# Altium integrated library Maxim Power and Battery Management.IntLib: 645 symbols (part 13 of 15)
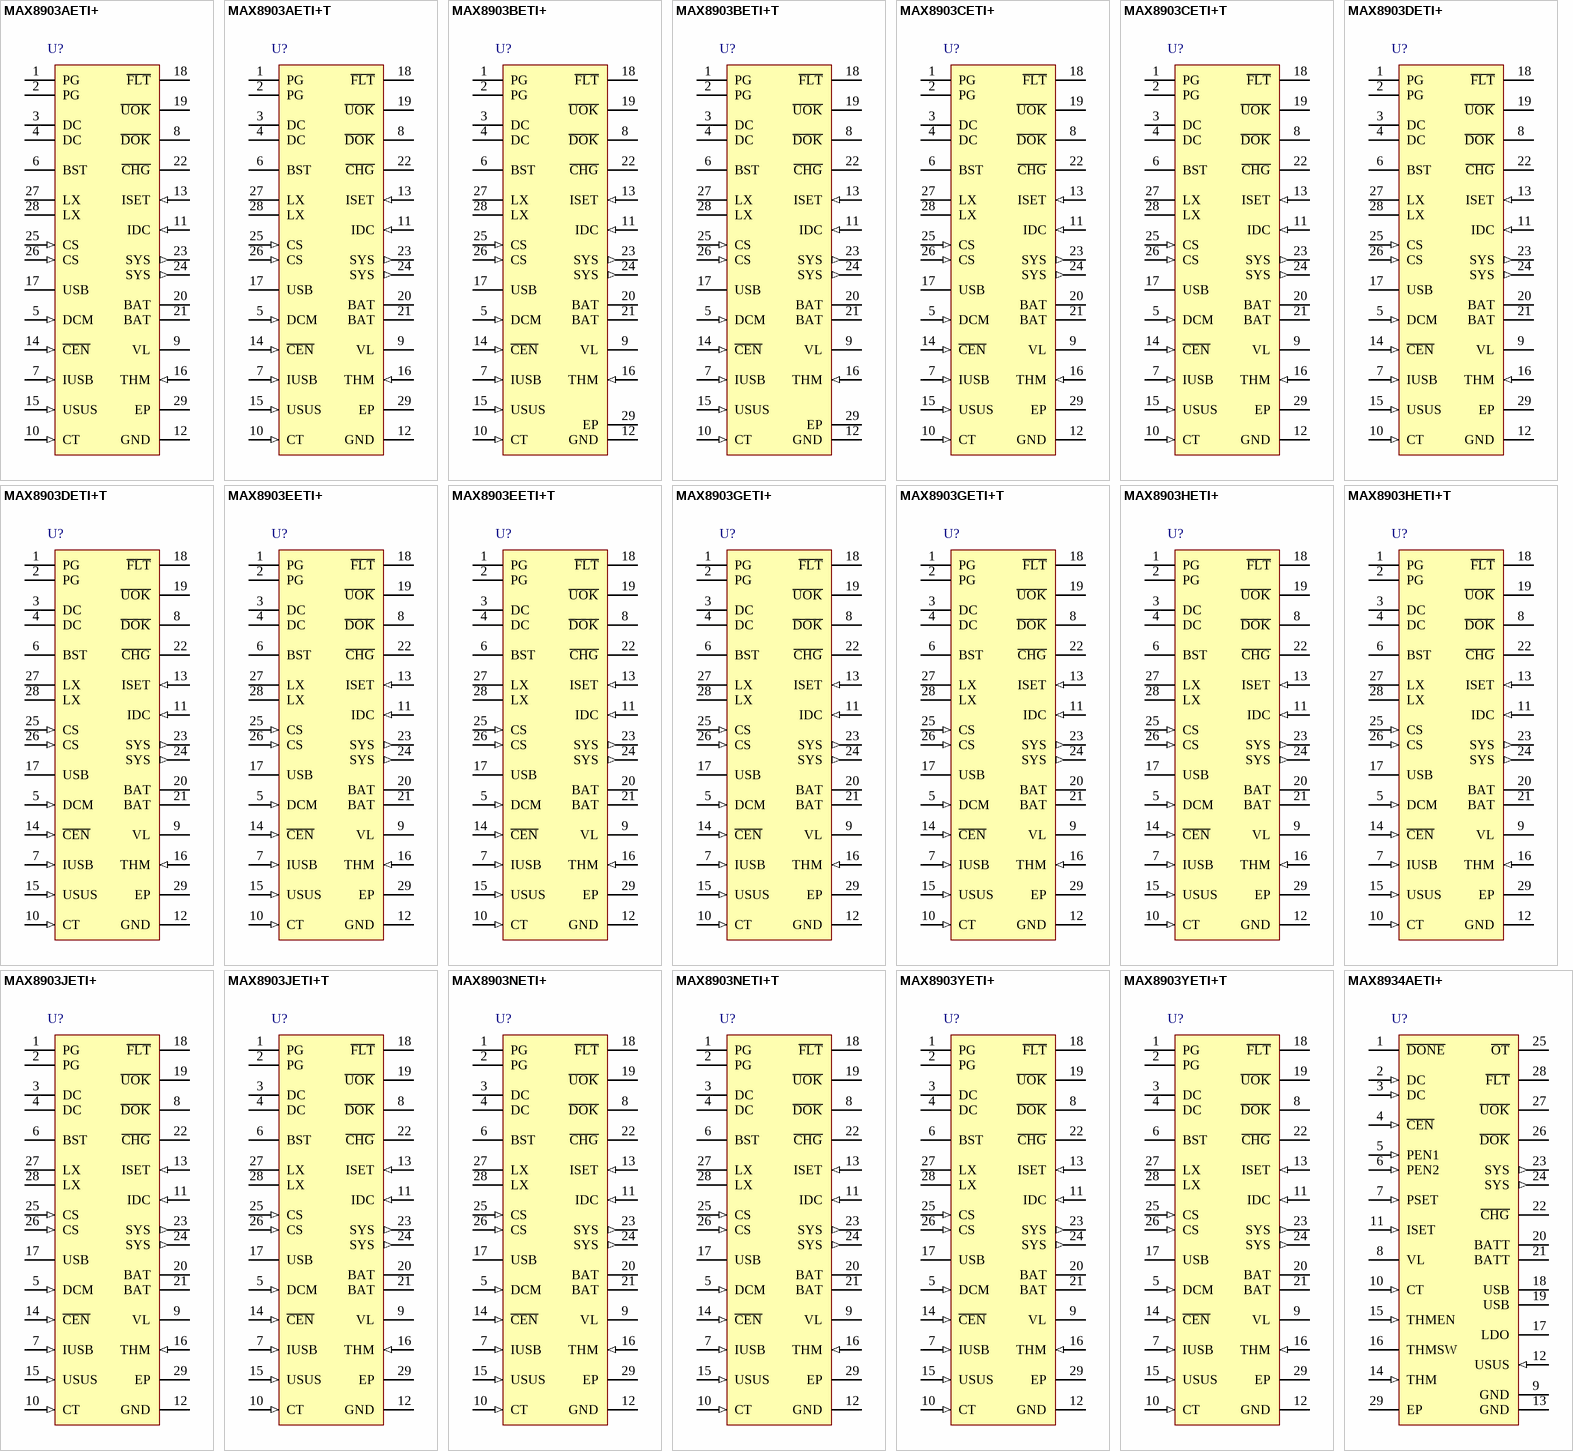
[diagram p31: symbols MAX8903AETI+ to MAX8934AETI+]

## MAX8903NETI+
designator U?
2A 1-Cell Li+ DC-DC Charger for USB and Adapter Power, 28-Pin TQFN, -40°C to +85°C, Pb-Free; DatasheetVersion: Rev 5, Sep-2011; PackageVersion: revK, 2011; PackageReference: T2844+1; PackageDescription: 28-Pin Thin Quad Flatpack, No Leads, 4 x 4 x 0.75mm Body, 0.4 mm Pitch, TQFN, Pb-Free; ComponentLink1Description: Manufacturer URL; ComponentLink1URL: http://www.maxim-ic.com; ComponentLink2Description: Datasheet; ComponentLink2URL: http://datasheets.maxim-ic.com/en/ds/MAX8903A-MAX8903Y.pdf; ComponentLink3Description: Package Specification; ComponentLink3URL: http://pdfserv.maxim-ic.com/package_dwgs/21-0139.PDF
footprint T2844+1_N (QFN, 28-Leads, Body 4x4mm, Pitch 0.4mm, Thermal Pad 2.4x2.4mm, IPC Medium Density)
footprint T2844+1_L (QFN, 28-Leads, Body 4x4mm, Pitch 0.4mm, Thermal Pad 2.4x2.4mm, IPC High Density)
footprint T2844+1_M (QFN, 28-Leads, Body 4x4mm, Pitch 0.4mm, Thermal Pad 2.4x2.4mm, IPC Low Density)
pins: 1 PG (power), 2 PG (power), 3 DC (power), 4 DC (power), 5 DCM (in), 6 BST, 7 IUSB (in), 8 ~{DOK} (oc), 9 VL (power), 10 CT (in), 11 IDC (in), 12 GND (power), 13 ISET (in), 14 ~{CEN} (in), 15 USUS (in), 16 THM (in), 17 USB (power), 18 ~{FLT} (oc), 19 ~{UOK} (oc), 20 BAT (power), 21 BAT (power), 22 ~{CHG} (oc), 23 SYS (out), 24 SYS (out), 25 CS (in), 26 CS (in), 27 LX, 28 LX, 29 EP (power)

## MAX8903NETI+T
designator U?
2A 1-Cell Li+ DC-DC Charger for USB and Adapter Power, 28-Pin TQFN, -40°C to +85°C, Pb-Free, Tape and Reel; DatasheetVersion: Rev 5, Sep-2011; PackageVersion: revK, 2011; PackageReference: T2844+1; PackageDescription: 28-Pin Thin Quad Flatpack, No Leads, 4 x 4 x 0.75mm Body, 0.4 mm Pitch, TQFN, Pb-Free; ComponentLink1Description: Manufacturer URL; ComponentLink1URL: http://www.maxim-ic.com; ComponentLink2Description: Datasheet; ComponentLink2URL: http://datasheets.maxim-ic.com/en/ds/MAX8903A-MAX8903Y.pdf; ComponentLink3Description: Package Specification; ComponentLink3URL: http://pdfserv.maxim-ic.com/package_dwgs/21-0139.PDF
footprint T2844+1_N (QFN, 28-Leads, Body 4x4mm, Pitch 0.4mm, Thermal Pad 2.4x2.4mm, IPC Medium Density)
footprint T2844+1_L (QFN, 28-Leads, Body 4x4mm, Pitch 0.4mm, Thermal Pad 2.4x2.4mm, IPC High Density)
footprint T2844+1_M (QFN, 28-Leads, Body 4x4mm, Pitch 0.4mm, Thermal Pad 2.4x2.4mm, IPC Low Density)
pins: 1 PG (power), 2 PG (power), 3 DC (power), 4 DC (power), 5 DCM (in), 6 BST, 7 IUSB (in), 8 ~{DOK} (oc), 9 VL (power), 10 CT (in), 11 IDC (in), 12 GND (power), 13 ISET (in), 14 ~{CEN} (in), 15 USUS (in), 16 THM (in), 17 USB (power), 18 ~{FLT} (oc), 19 ~{UOK} (oc), 20 BAT (power), 21 BAT (power), 22 ~{CHG} (oc), 23 SYS (out), 24 SYS (out), 25 CS (in), 26 CS (in), 27 LX, 28 LX, 29 EP (power)

## MAX8903YETI+
designator U?
2A 1-Cell Li+ DC-DC Charger for USB and Adapter Power, 28-Pin TQFN, -40°C to +85°C, Pb-Free; DatasheetVersion: Rev 5, Sep-2011; PackageVersion: revK, 2011; PackageReference: T2844+1; PackageDescription: 28-Pin Thin Quad Flatpack, No Leads, 4 x 4 x 0.75mm Body, 0.4 mm Pitch, TQFN, Pb-Free; ComponentLink1Description: Manufacturer URL; ComponentLink1URL: http://www.maxim-ic.com; ComponentLink2Description: Datasheet; ComponentLink2URL: http://datasheets.maxim-ic.com/en/ds/MAX8903A-MAX8903Y.pdf; ComponentLink3Description: Package Specification; ComponentLink3URL: http://pdfserv.maxim-ic.com/package_dwgs/21-0139.PDF
footprint T2844+1_N (QFN, 28-Leads, Body 4x4mm, Pitch 0.4mm, Thermal Pad 2.4x2.4mm, IPC Medium Density)
footprint T2844+1_L (QFN, 28-Leads, Body 4x4mm, Pitch 0.4mm, Thermal Pad 2.4x2.4mm, IPC High Density)
footprint T2844+1_M (QFN, 28-Leads, Body 4x4mm, Pitch 0.4mm, Thermal Pad 2.4x2.4mm, IPC Low Density)
pins: 1 PG (power), 2 PG (power), 3 DC (power), 4 DC (power), 5 DCM (in), 6 BST, 7 IUSB (in), 8 ~{DOK} (oc), 9 VL (power), 10 CT (in), 11 IDC (in), 12 GND (power), 13 ISET (in), 14 ~{CEN} (in), 15 USUS (in), 16 THM (in), 17 USB (power), 18 ~{FLT} (oc), 19 ~{UOK} (oc), 20 BAT (power), 21 BAT (power), 22 ~{CHG} (oc), 23 SYS (out), 24 SYS (out), 25 CS (in), 26 CS (in), 27 LX, 28 LX, 29 EP (power)

## MAX8903YETI+T
designator U?
2A 1-Cell Li+ DC-DC Charger for USB and Adapter Power, 28-Pin TQFN, -40°C to +85°C, Pb-Free, Tape and Reel; DatasheetVersion: Rev 5, Sep-2011; PackageVersion: revK, 2011; PackageReference: T2844+1; PackageDescription: 28-Pin Thin Quad Flatpack, No Leads, 4 x 4 x 0.75mm Body, 0.4 mm Pitch, TQFN, Pb-Free; ComponentLink1Description: Manufacturer URL; ComponentLink1URL: http://www.maxim-ic.com; ComponentLink2Description: Datasheet; ComponentLink2URL: http://datasheets.maxim-ic.com/en/ds/MAX8903A-MAX8903Y.pdf; ComponentLink3Description: Package Specification; ComponentLink3URL: http://pdfserv.maxim-ic.com/package_dwgs/21-0139.PDF
footprint T2844+1_N (QFN, 28-Leads, Body 4x4mm, Pitch 0.4mm, Thermal Pad 2.4x2.4mm, IPC Medium Density)
footprint T2844+1_L (QFN, 28-Leads, Body 4x4mm, Pitch 0.4mm, Thermal Pad 2.4x2.4mm, IPC High Density)
footprint T2844+1_M (QFN, 28-Leads, Body 4x4mm, Pitch 0.4mm, Thermal Pad 2.4x2.4mm, IPC Low Density)
pins: 1 PG (power), 2 PG (power), 3 DC (power), 4 DC (power), 5 DCM (in), 6 BST, 7 IUSB (in), 8 ~{DOK} (oc), 9 VL (power), 10 CT (in), 11 IDC (in), 12 GND (power), 13 ISET (in), 14 ~{CEN} (in), 15 USUS (in), 16 THM (in), 17 USB (power), 18 ~{FLT} (oc), 19 ~{UOK} (oc), 20 BAT (power), 21 BAT (power), 22 ~{CHG} (oc), 23 SYS (out), 24 SYS (out), 25 CS (in), 26 CS (in), 27 LX, 28 LX, 29 EP (power)

## MAX8934AETI+
designator U?
Dual-Input Linear Charger, Smart Power Selector with Advanced Battery Temperature Monitoring, 5.4V sys voltage, 3964 Thermistor beta+, 28-Pin TQFN, -40°C to +85°C, Pb-Free; DatasheetVersion: Rev 2, Jun-2010; PackageVersion: revK, 2011; PackageReference: T2844+1; PackageDescription: 28-Pin Thin Quad Flatpack, No Leads, 4 x 4 x 0.75mm Body, 0.4 mm Pitch, TQFN, Pb-Free; ComponentLink1Description: Manufacturer URL; ComponentLink1URL: http://www.maxim-ic.com; ComponentLink2Description: Datasheet; ComponentLink2URL: http://datasheets.maxim-ic.com/en/ds/MAX8934A-MAX8934E.pdf; ComponentLink3Description: Package Specification; ComponentLink3URL: http://pdfserv.maxim-ic.com/package_dwgs/21-0139.PDF
footprint T2844+1_N (QFN, 28-Leads, Body 4x4mm, Pitch 0.4mm, Thermal Pad 2.4x2.4mm, IPC Medium Density)
footprint T2844+1_L (QFN, 28-Leads, Body 4x4mm, Pitch 0.4mm, Thermal Pad 2.4x2.4mm, IPC High Density)
footprint T2844+1_M (QFN, 28-Leads, Body 4x4mm, Pitch 0.4mm, Thermal Pad 2.4x2.4mm, IPC Low Density)
pins: 1 ~{DONE} (oc), 2 DC (in), 3 DC (in), 4 ~{CEN} (in), 5 PEN1 (in), 6 PEN2 (in), 7 PSET (in), 8 VL (power), 9 GND (power), 10 CT (in), 11 ISET (in), 12 USUS (in), 13 GND (power), 14 THM (in), 15 THMEN (in), 16 THMSW, 17 LDO (power), 18 USB (power), 19 USB (power), 20 BATT (power), 21 BATT (power), 22 ~{CHG} (oc), 23 SYS (out), 24 SYS (out), 25 ~{OT} (oc), 26 ~{DOK} (oc), 27 ~{UOK} (oc), 28 ~{FLT} (oc), 29 EP (power)

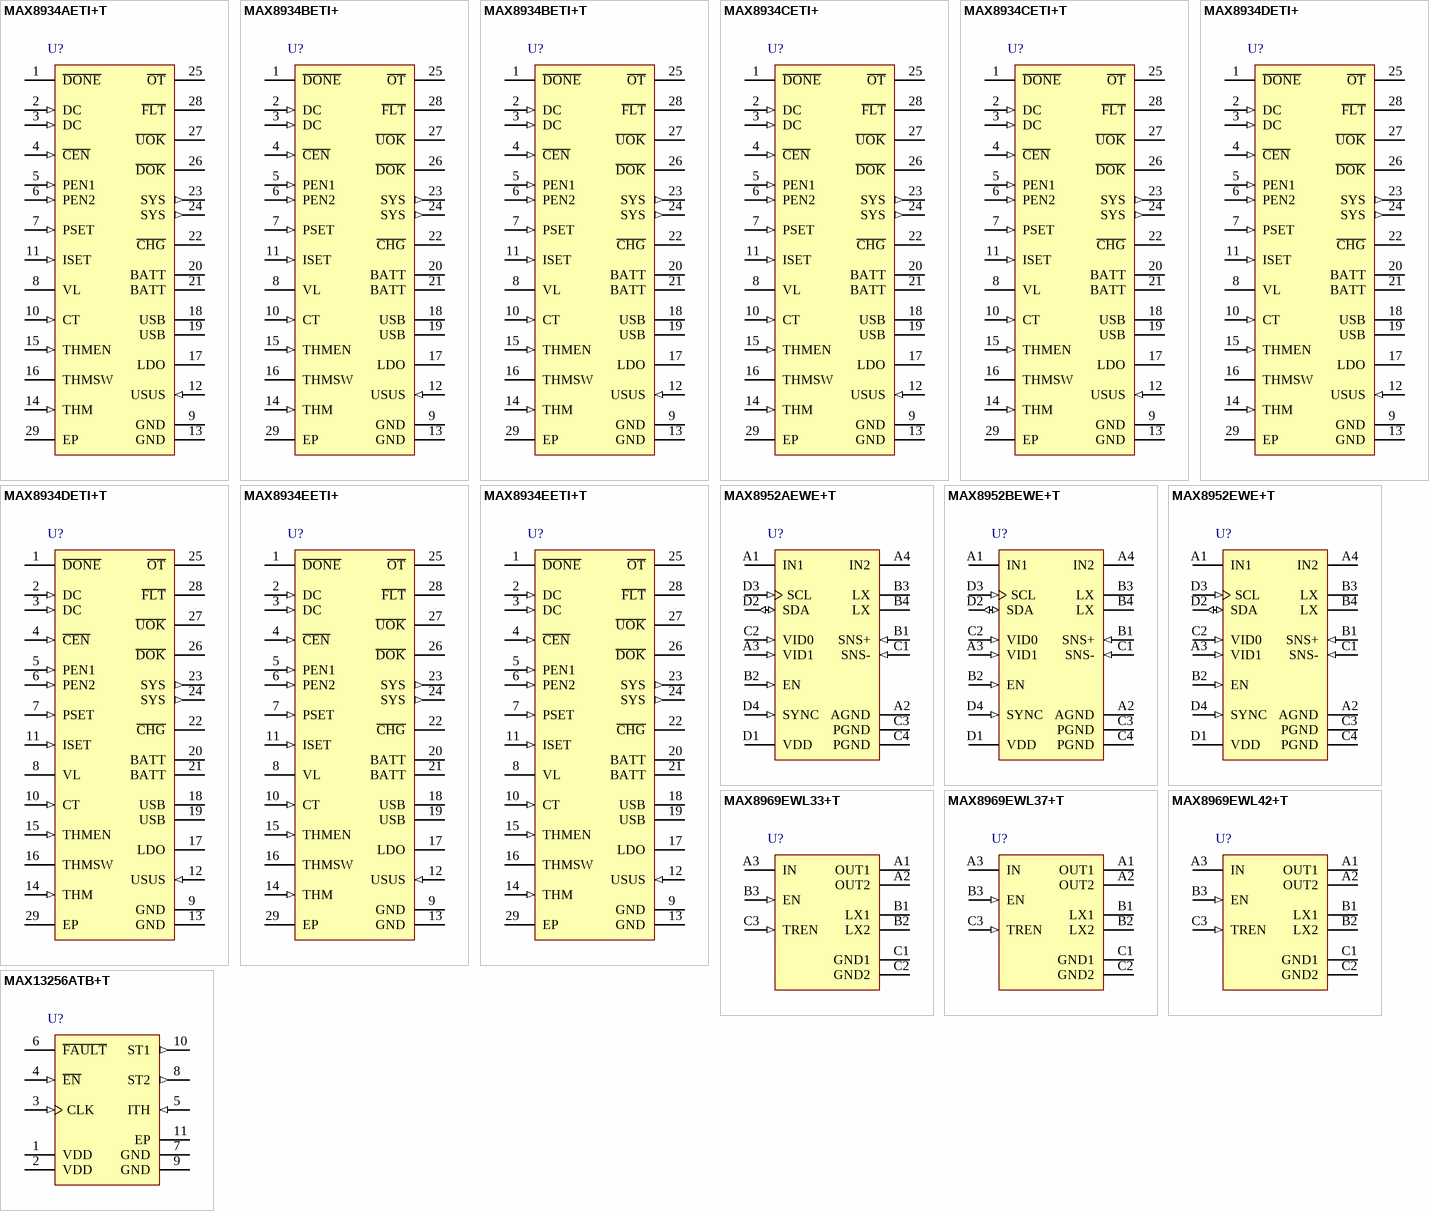
[diagram p16: symbols MAX8934AETI+T to MAX13256ATB+T]

## MAX8934AETI+T
designator U?
Dual-Input Linear Charger, Smart Power Selector with Advanced Battery Temperature Monitoring, 5.4V sys voltage, 3964 Thermistor beta+, 28-Pin TQFN, -40°C to +85°C, Pb-Free, Tape and Reel; DatasheetVersion: Rev 2, Jun-2010; PackageVersion: revK, 2011; PackageReference: T2844+1; PackageDescription: 28-Pin Thin Quad Flatpack, No Leads, 4 x 4 x 0.75mm Body, 0.4 mm Pitch, TQFN, Pb-Free; ComponentLink1Description: Manufacturer URL; ComponentLink1URL: http://www.maxim-ic.com; ComponentLink2Description: Datasheet; ComponentLink2URL: http://datasheets.maxim-ic.com/en/ds/MAX8934A-MAX8934E.pdf; ComponentLink3Description: Package Specification; ComponentLink3URL: http://pdfserv.maxim-ic.com/package_dwgs/21-0139.PDF
footprint T2844+1_N (QFN, 28-Leads, Body 4x4mm, Pitch 0.4mm, Thermal Pad 2.4x2.4mm, IPC Medium Density)
footprint T2844+1_L (QFN, 28-Leads, Body 4x4mm, Pitch 0.4mm, Thermal Pad 2.4x2.4mm, IPC High Density)
footprint T2844+1_M (QFN, 28-Leads, Body 4x4mm, Pitch 0.4mm, Thermal Pad 2.4x2.4mm, IPC Low Density)
pins: 1 ~{DONE} (oc), 2 DC (in), 3 DC (in), 4 ~{CEN} (in), 5 PEN1 (in), 6 PEN2 (in), 7 PSET (in), 8 VL (power), 9 GND (power), 10 CT (in), 11 ISET (in), 12 USUS (in), 13 GND (power), 14 THM (in), 15 THMEN (in), 16 THMSW, 17 LDO (power), 18 USB (power), 19 USB (power), 20 BATT (power), 21 BATT (power), 22 ~{CHG} (oc), 23 SYS (out), 24 SYS (out), 25 ~{OT} (oc), 26 ~{DOK} (oc), 27 ~{UOK} (oc), 28 ~{FLT} (oc), 29 EP (power)

## MAX8934BETI+
designator U?
Dual-Input Linear Charger, Smart Power Selector with Advanced Battery Temperature Monitoring, 4.35V sys voltage, 3477 Thermistor beta+, 28-Pin TQFN, -40°C to +85°C, Pb-Free; DatasheetVersion: Rev 2, Jun-2010; PackageVersion: revK, 2011; PackageReference: T2844+1; PackageDescription: 28-Pin Thin Quad Flatpack, No Leads, 4 x 4 x 0.75mm Body, 0.4 mm Pitch, TQFN, Pb-Free; ComponentLink1Description: Manufacturer URL; ComponentLink1URL: http://www.maxim-ic.com; ComponentLink2Description: Datasheet; ComponentLink2URL: http://datasheets.maxim-ic.com/en/ds/MAX8934A-MAX8934E.pdf; ComponentLink3Description: Package Specification; ComponentLink3URL: http://pdfserv.maxim-ic.com/package_dwgs/21-0139.PDF
footprint T2844+1_N (QFN, 28-Leads, Body 4x4mm, Pitch 0.4mm, Thermal Pad 2.4x2.4mm, IPC Medium Density)
footprint T2844+1_L (QFN, 28-Leads, Body 4x4mm, Pitch 0.4mm, Thermal Pad 2.4x2.4mm, IPC High Density)
footprint T2844+1_M (QFN, 28-Leads, Body 4x4mm, Pitch 0.4mm, Thermal Pad 2.4x2.4mm, IPC Low Density)
pins: 1 ~{DONE} (oc), 2 DC (in), 3 DC (in), 4 ~{CEN} (in), 5 PEN1 (in), 6 PEN2 (in), 7 PSET (in), 8 VL (power), 9 GND (power), 10 CT (in), 11 ISET (in), 12 USUS (in), 13 GND (power), 14 THM (in), 15 THMEN (in), 16 THMSW, 17 LDO (power), 18 USB (power), 19 USB (power), 20 BATT (power), 21 BATT (power), 22 ~{CHG} (oc), 23 SYS (out), 24 SYS (out), 25 ~{OT} (oc), 26 ~{DOK} (oc), 27 ~{UOK} (oc), 28 ~{FLT} (oc), 29 EP (power)

## MAX8934BETI+T
designator U?
Dual-Input Linear Charger, Smart Power Selector with Advanced Battery Temperature Monitoring, 4.35V sys voltage, 3477 Thermistor beta+, 28-Pin TQFN, -40°C to +85°C, Pb-Free, Tape and Reel; DatasheetVersion: Rev 2, Jun-2010; PackageVersion: revK, 2011; PackageReference: T2844+1; PackageDescription: 28-Pin Thin Quad Flatpack, No Leads, 4 x 4 x 0.75mm Body, 0.4 mm Pitch, TQFN, Pb-Free; ComponentLink1Description: Manufacturer URL; ComponentLink1URL: http://www.maxim-ic.com; ComponentLink2Description: Datasheet; ComponentLink2URL: http://datasheets.maxim-ic.com/en/ds/MAX8934A-MAX8934E.pdf; ComponentLink3Description: Package Specification; ComponentLink3URL: http://pdfserv.maxim-ic.com/package_dwgs/21-0139.PDF
footprint T2844+1_N (QFN, 28-Leads, Body 4x4mm, Pitch 0.4mm, Thermal Pad 2.4x2.4mm, IPC Medium Density)
footprint T2844+1_L (QFN, 28-Leads, Body 4x4mm, Pitch 0.4mm, Thermal Pad 2.4x2.4mm, IPC High Density)
footprint T2844+1_M (QFN, 28-Leads, Body 4x4mm, Pitch 0.4mm, Thermal Pad 2.4x2.4mm, IPC Low Density)
pins: 1 ~{DONE} (oc), 2 DC (in), 3 DC (in), 4 ~{CEN} (in), 5 PEN1 (in), 6 PEN2 (in), 7 PSET (in), 8 VL (power), 9 GND (power), 10 CT (in), 11 ISET (in), 12 USUS (in), 13 GND (power), 14 THM (in), 15 THMEN (in), 16 THMSW, 17 LDO (power), 18 USB (power), 19 USB (power), 20 BATT (power), 21 BATT (power), 22 ~{CHG} (oc), 23 SYS (out), 24 SYS (out), 25 ~{OT} (oc), 26 ~{DOK} (oc), 27 ~{UOK} (oc), 28 ~{FLT} (oc), 29 EP (power)

## MAX8934CETI+
designator U?
Dual-Input Linear Charger, Smart Power Selector with Advanced Battery Temperature Monitoring, 4.35V sys voltage, 3964 Thermistor beta+, 28-Pin TQFN, -40°C to +85°C, Pb-Free; DatasheetVersion: Rev 2, Jun-2010; PackageVersion: revK, 2011; PackageReference: T2844+1; PackageDescription: 28-Pin Thin Quad Flatpack, No Leads, 4 x 4 x 0.75mm Body, 0.4 mm Pitch, TQFN, Pb-Free; ComponentLink1Description: Manufacturer URL; ComponentLink1URL: http://www.maxim-ic.com; ComponentLink2Description: Datasheet; ComponentLink2URL: http://datasheets.maxim-ic.com/en/ds/MAX8934A-MAX8934E.pdf; ComponentLink3Description: Package Specification; ComponentLink3URL: http://pdfserv.maxim-ic.com/package_dwgs/21-0139.PDF
footprint T2844+1_N (QFN, 28-Leads, Body 4x4mm, Pitch 0.4mm, Thermal Pad 2.4x2.4mm, IPC Medium Density)
footprint T2844+1_L (QFN, 28-Leads, Body 4x4mm, Pitch 0.4mm, Thermal Pad 2.4x2.4mm, IPC High Density)
footprint T2844+1_M (QFN, 28-Leads, Body 4x4mm, Pitch 0.4mm, Thermal Pad 2.4x2.4mm, IPC Low Density)
pins: 1 ~{DONE} (oc), 2 DC (in), 3 DC (in), 4 ~{CEN} (in), 5 PEN1 (in), 6 PEN2 (in), 7 PSET (in), 8 VL (power), 9 GND (power), 10 CT (in), 11 ISET (in), 12 USUS (in), 13 GND (power), 14 THM (in), 15 THMEN (in), 16 THMSW, 17 LDO (power), 18 USB (power), 19 USB (power), 20 BATT (power), 21 BATT (power), 22 ~{CHG} (oc), 23 SYS (out), 24 SYS (out), 25 ~{OT} (oc), 26 ~{DOK} (oc), 27 ~{UOK} (oc), 28 ~{FLT} (oc), 29 EP (power)

## MAX8934CETI+T
designator U?
Dual-Input Linear Charger, Smart Power Selector with Advanced Battery Temperature Monitoring, 4.35V sys voltage, 3964 Thermistor beta+, 28-Pin TQFN, -40°C to +85°C, Pb-Free, Tape and Reel; DatasheetVersion: Rev 2, Jun-2010; PackageVersion: revK, 2011; PackageReference: T2844+1; PackageDescription: 28-Pin Thin Quad Flatpack, No Leads, 4 x 4 x 0.75mm Body, 0.4 mm Pitch, TQFN, Pb-Free; ComponentLink1Description: Manufacturer URL; ComponentLink1URL: http://www.maxim-ic.com; ComponentLink2Description: Datasheet; ComponentLink2URL: http://datasheets.maxim-ic.com/en/ds/MAX8934A-MAX8934E.pdf; ComponentLink3Description: Package Specification; ComponentLink3URL: http://pdfserv.maxim-ic.com/package_dwgs/21-0139.PDF
footprint T2844+1_N (QFN, 28-Leads, Body 4x4mm, Pitch 0.4mm, Thermal Pad 2.4x2.4mm, IPC Medium Density)
footprint T2844+1_L (QFN, 28-Leads, Body 4x4mm, Pitch 0.4mm, Thermal Pad 2.4x2.4mm, IPC High Density)
footprint T2844+1_M (QFN, 28-Leads, Body 4x4mm, Pitch 0.4mm, Thermal Pad 2.4x2.4mm, IPC Low Density)
pins: 1 ~{DONE} (oc), 2 DC (in), 3 DC (in), 4 ~{CEN} (in), 5 PEN1 (in), 6 PEN2 (in), 7 PSET (in), 8 VL (power), 9 GND (power), 10 CT (in), 11 ISET (in), 12 USUS (in), 13 GND (power), 14 THM (in), 15 THMEN (in), 16 THMSW, 17 LDO (power), 18 USB (power), 19 USB (power), 20 BATT (power), 21 BATT (power), 22 ~{CHG} (oc), 23 SYS (out), 24 SYS (out), 25 ~{OT} (oc), 26 ~{DOK} (oc), 27 ~{UOK} (oc), 28 ~{FLT} (oc), 29 EP (power)

## MAX8934DETI+
designator U?
Dual-Input Linear Charger, Smart Power Selector with Advanced Battery Temperature Monitoring, 4.35V sys voltage, 3477 Thermistor beta+, 28-Pin TQFN, -40°C to +85°C, Pb-Free; DatasheetVersion: Rev 2, Jun-2010; PackageVersion: revK, 2011; PackageReference: T2844+1; PackageDescription: 28-Pin Thin Quad Flatpack, No Leads, 4 x 4 x 0.75mm Body, 0.4 mm Pitch, TQFN, Pb-Free; ComponentLink1Description: Manufacturer URL; ComponentLink1URL: http://www.maxim-ic.com; ComponentLink2Description: Datasheet; ComponentLink2URL: http://datasheets.maxim-ic.com/en/ds/MAX8934A-MAX8934E.pdf; ComponentLink3Description: Package Specification; ComponentLink3URL: http://pdfserv.maxim-ic.com/package_dwgs/21-0139.PDF
footprint T2844+1_N (QFN, 28-Leads, Body 4x4mm, Pitch 0.4mm, Thermal Pad 2.4x2.4mm, IPC Medium Density)
footprint T2844+1_L (QFN, 28-Leads, Body 4x4mm, Pitch 0.4mm, Thermal Pad 2.4x2.4mm, IPC High Density)
footprint T2844+1_M (QFN, 28-Leads, Body 4x4mm, Pitch 0.4mm, Thermal Pad 2.4x2.4mm, IPC Low Density)
pins: 1 ~{DONE} (oc), 2 DC (in), 3 DC (in), 4 ~{CEN} (in), 5 PEN1 (in), 6 PEN2 (in), 7 PSET (in), 8 VL (power), 9 GND (power), 10 CT (in), 11 ISET (in), 12 USUS (in), 13 GND (power), 14 THM (in), 15 THMEN (in), 16 THMSW, 17 LDO (power), 18 USB (power), 19 USB (power), 20 BATT (power), 21 BATT (power), 22 ~{CHG} (oc), 23 SYS (out), 24 SYS (out), 25 ~{OT} (oc), 26 ~{DOK} (oc), 27 ~{UOK} (oc), 28 ~{FLT} (oc), 29 EP (power)

## MAX8934DETI+T
designator U?
Dual-Input Linear Charger, Smart Power Selector with Advanced Battery Temperature Monitoring, 4.35V sys voltage, 3477 Thermistor beta+, 28-Pin TQFN, -40°C to +85°C, Pb-Free, Tape and Reel; DatasheetVersion: Rev 2, Jun-2010; PackageVersion: revK, 2011; PackageReference: T2844+1; PackageDescription: 28-Pin Thin Quad Flatpack, No Leads, 4 x 4 x 0.75mm Body, 0.4 mm Pitch, TQFN, Pb-Free; ComponentLink1Description: Manufacturer URL; ComponentLink1URL: http://www.maxim-ic.com; ComponentLink2Description: Datasheet; ComponentLink2URL: http://datasheets.maxim-ic.com/en/ds/MAX8934A-MAX8934E.pdf; ComponentLink3Description: Package Specification; ComponentLink3URL: http://pdfserv.maxim-ic.com/package_dwgs/21-0139.PDF
footprint T2844+1_N (QFN, 28-Leads, Body 4x4mm, Pitch 0.4mm, Thermal Pad 2.4x2.4mm, IPC Medium Density)
footprint T2844+1_L (QFN, 28-Leads, Body 4x4mm, Pitch 0.4mm, Thermal Pad 2.4x2.4mm, IPC High Density)
footprint T2844+1_M (QFN, 28-Leads, Body 4x4mm, Pitch 0.4mm, Thermal Pad 2.4x2.4mm, IPC Low Density)
pins: 1 ~{DONE} (oc), 2 DC (in), 3 DC (in), 4 ~{CEN} (in), 5 PEN1 (in), 6 PEN2 (in), 7 PSET (in), 8 VL (power), 9 GND (power), 10 CT (in), 11 ISET (in), 12 USUS (in), 13 GND (power), 14 THM (in), 15 THMEN (in), 16 THMSW, 17 LDO (power), 18 USB (power), 19 USB (power), 20 BATT (power), 21 BATT (power), 22 ~{CHG} (oc), 23 SYS (out), 24 SYS (out), 25 ~{OT} (oc), 26 ~{DOK} (oc), 27 ~{UOK} (oc), 28 ~{FLT} (oc), 29 EP (power)

## MAX8934EETI+
designator U?
Dual-Input Linear Charger, Smart Power Selector with Advanced Battery Temperature Monitoring, 4.35V sys voltage, 3477 Thermistor beta+, 28-Pin TQFN, -40°C to +85°C, Pb-Free; DatasheetVersion: Rev 2, Jun-2010; PackageVersion: revK, 2011; PackageReference: T2844+1; PackageDescription: 28-Pin Thin Quad Flatpack, No Leads, 4 x 4 x 0.75mm Body, 0.4 mm Pitch, TQFN, Pb-Free; ComponentLink1Description: Manufacturer URL; ComponentLink1URL: http://www.maxim-ic.com; ComponentLink2Description: Datasheet; ComponentLink2URL: http://datasheets.maxim-ic.com/en/ds/MAX8934A-MAX8934E.pdf; ComponentLink3Description: Package Specification; ComponentLink3URL: http://pdfserv.maxim-ic.com/package_dwgs/21-0139.PDF
footprint T2844+1_N (QFN, 28-Leads, Body 4x4mm, Pitch 0.4mm, Thermal Pad 2.4x2.4mm, IPC Medium Density)
footprint T2844+1_L (QFN, 28-Leads, Body 4x4mm, Pitch 0.4mm, Thermal Pad 2.4x2.4mm, IPC High Density)
footprint T2844+1_M (QFN, 28-Leads, Body 4x4mm, Pitch 0.4mm, Thermal Pad 2.4x2.4mm, IPC Low Density)
pins: 1 ~{DONE} (oc), 2 DC (in), 3 DC (in), 4 ~{CEN} (in), 5 PEN1 (in), 6 PEN2 (in), 7 PSET (in), 8 VL (power), 9 GND (power), 10 CT (in), 11 ISET (in), 12 USUS (in), 13 GND (power), 14 THM (in), 15 THMEN (in), 16 THMSW, 17 LDO (power), 18 USB (power), 19 USB (power), 20 BATT (power), 21 BATT (power), 22 ~{CHG} (oc), 23 SYS (out), 24 SYS (out), 25 ~{OT} (oc), 26 ~{DOK} (oc), 27 ~{UOK} (oc), 28 ~{FLT} (oc), 29 EP (power)

## MAX8934EETI+T
designator U?
Dual-Input Linear Charger, Smart Power Selector with Advanced Battery Temperature Monitoring, 4.35V sys voltage, 3477 Thermistor beta+, 28-Pin TQFN, -40°C to +85°C, Pb-Free, Tape and Reel; DatasheetVersion: Rev 2, Jun-2010; PackageVersion: revK, 2011; PackageReference: T2844+1; PackageDescription: 28-Pin Thin Quad Flatpack, No Leads, 4 x 4 x 0.75mm Body, 0.4 mm Pitch, TQFN, Pb-Free; ComponentLink1Description: Manufacturer URL; ComponentLink1URL: http://www.maxim-ic.com; ComponentLink2Description: Datasheet; ComponentLink2URL: http://datasheets.maxim-ic.com/en/ds/MAX8934A-MAX8934E.pdf; ComponentLink3Description: Package Specification; ComponentLink3URL: http://pdfserv.maxim-ic.com/package_dwgs/21-0139.PDF
footprint T2844+1_N (QFN, 28-Leads, Body 4x4mm, Pitch 0.4mm, Thermal Pad 2.4x2.4mm, IPC Medium Density)
footprint T2844+1_L (QFN, 28-Leads, Body 4x4mm, Pitch 0.4mm, Thermal Pad 2.4x2.4mm, IPC High Density)
footprint T2844+1_M (QFN, 28-Leads, Body 4x4mm, Pitch 0.4mm, Thermal Pad 2.4x2.4mm, IPC Low Density)
pins: 1 ~{DONE} (oc), 2 DC (in), 3 DC (in), 4 ~{CEN} (in), 5 PEN1 (in), 6 PEN2 (in), 7 PSET (in), 8 VL (power), 9 GND (power), 10 CT (in), 11 ISET (in), 12 USUS (in), 13 GND (power), 14 THM (in), 15 THMEN (in), 16 THMSW, 17 LDO (power), 18 USB (power), 19 USB (power), 20 BATT (power), 21 BATT (power), 22 ~{CHG} (oc), 23 SYS (out), 24 SYS (out), 25 ~{OT} (oc), 26 ~{DOK} (oc), 27 ~{UOK} (oc), 28 ~{FLT} (oc), 29 EP (power)

## MAX8952AEWE+T
designator U?
2.5A Step-Down Regulator with Remote Sense, 0.77 to 1.4V output, 16-Pin WLP, -40°C to +85°C, Pb-Free, Tape and Reel; DatasheetVersion: Rev 1, Jun-2011; PackageVersion: revF, 2011; PackageReference: W162B2+1; PackageDescription: 16-Ball Wafer-Level Package (WLP) 4x4 Bump, Full Array, 0.5 mm Pitch, Pb-Free; ComponentLink1Description: Manufacturer URL; ComponentLink1URL: http://www.maxim-ic.com; ComponentLink2Description: Datasheet; ComponentLink2URL: http://datasheets.maxim-ic.com/en/ds/MAX8952.pdf; ComponentLink3Description: Package Specification; ComponentLink3URL: http://pdfserv.maxim-ic.com/package_dwgs/21-0200.PDF
footprint W162B2+1 (BGA, 16-Leads, Body 2.05x2.05mm, Pitch 0.5mm)
pins: A1 IN1 (power), A2 AGND (power), A3 VID1 (in), A4 IN2 (power), B1 SNS+ (in), B2 EN (in), B3 LX, B4 LX, C1 SNS- (in), C2 VID0 (in), C3 PGND (power), C4 PGND (power), D1 VDD (power), D2 SDA (io), D3 SCL (in), D4 SYNC (in)

## MAX8952BEWE+T
designator U?
2.5A Step-Down Regulator with Remote Sense, 0.77 to 1.4V output, 16-Pin WLP, -40°C to +85°C, Pb-Free, Tape and Reel; DatasheetVersion: Rev 1, Jun-2011; PackageVersion: revF, 2011; PackageReference: W162B2+1; PackageDescription: 16-Ball Wafer-Level Package (WLP) 4x4 Bump, Full Array, 0.5 mm Pitch, Pb-Free; ComponentLink1Description: Manufacturer URL; ComponentLink1URL: http://www.maxim-ic.com; ComponentLink2Description: Datasheet; ComponentLink2URL: http://datasheets.maxim-ic.com/en/ds/MAX8952.pdf; ComponentLink3Description: Package Specification; ComponentLink3URL: http://pdfserv.maxim-ic.com/package_dwgs/21-0200.PDF
footprint W162B2+1 (BGA, 16-Leads, Body 2.05x2.05mm, Pitch 0.5mm)
pins: A1 IN1 (power), A2 AGND (power), A3 VID1 (in), A4 IN2 (power), B1 SNS+ (in), B2 EN (in), B3 LX, B4 LX, C1 SNS- (in), C2 VID0 (in), C3 PGND (power), C4 PGND (power), D1 VDD (power), D2 SDA (io), D3 SCL (in), D4 SYNC (in)

## MAX8952EWE+T
designator U?
2.5A Step-Down Regulator with Remote Sense, 0.77 to 1.4V output, 16-Pin WLP, -40°C to +85°C, Pb-Free, Tape and Reel; DatasheetVersion: Rev 1, Jun-2011; PackageVersion: revF, 2011; PackageReference: W162B2+1; PackageDescription: 16-Ball Wafer-Level Package (WLP) 4x4 Bump, Full Array, 0.5 mm Pitch, Pb-Free; ComponentLink1Description: Manufacturer URL; ComponentLink1URL: http://www.maxim-ic.com; ComponentLink2Description: Datasheet; ComponentLink2URL: http://datasheets.maxim-ic.com/en/ds/MAX8952.pdf; ComponentLink3Description: Package Specification; ComponentLink3URL: http://pdfserv.maxim-ic.com/package_dwgs/21-0200.PDF
footprint W162B2+1 (BGA, 16-Leads, Body 2.05x2.05mm, Pitch 0.5mm)
pins: A1 IN1 (power), A2 AGND (power), A3 VID1 (in), A4 IN2 (power), B1 SNS+ (in), B2 EN (in), B3 LX, B4 LX, C1 SNS- (in), C2 VID0 (in), C3 PGND (power), C4 PGND (power), D1 VDD (power), D2 SDA (io), D3 SCL (in), D4 SYNC (in)

## MAX8969EWL33+T
designator U?
1A, Step-Up Converter for Handheld Applications, 3.3V output, 9-Pin WLP, -40°C to +85°C, Pb-Free, Tape and Reel; DatasheetVersion: Rev 0, Sep-2011; PackageVersion: revD, 2011; PackageReference: W91B1+7; PackageDescription: 9-Ball Wafer-Level Package 3x3 Bump, Full Array (WLP) 0.4 mm Pitch, Pb-Free; ComponentLink1Description: Manufacturer URL; ComponentLink1URL: http://www.maxim-ic.com; ComponentLink2Description: Datasheet; ComponentLink2URL: http://datasheets.maxim-ic.com/en/ds/MAX8969.pdf; ComponentLink3Description: Package Specification; ComponentLink3URL: http://pdfserv.maxim-ic.com/package_dwgs/21-0459.PDF
footprint W91B1+7 (BGA, 9-Leads, Body 1.26x1.26mm, Pitch 0.4mm)
pins: A1 OUT1 (power), A2 OUT2 (power), A3 IN (power), B1 LX1, B2 LX2, B3 EN (in), C1 GND1 (power), C2 GND2 (power), C3 TREN (in)

## MAX8969EWL37+T
designator U?
1A, Step-Up Converter for Handheld Applications, 3.7V output, 9-Pin WLP, -40°C to +85°C, Pb-Free, Tape and Reel; DatasheetVersion: Rev 0, Sep-2011; PackageVersion: revD, 2011; PackageReference: W91B1+7; PackageDescription: 9-Ball Wafer-Level Package 3x3 Bump, Full Array (WLP) 0.4 mm Pitch, Pb-Free; ComponentLink1Description: Manufacturer URL; ComponentLink1URL: http://www.maxim-ic.com; ComponentLink2Description: Datasheet; ComponentLink2URL: http://datasheets.maxim-ic.com/en/ds/MAX8969.pdf; ComponentLink3Description: Package Specification; ComponentLink3URL: http://pdfserv.maxim-ic.com/package_dwgs/21-0459.PDF
footprint W91B1+7 (BGA, 9-Leads, Body 1.26x1.26mm, Pitch 0.4mm)
pins: A1 OUT1 (power), A2 OUT2 (power), A3 IN (power), B1 LX1, B2 LX2, B3 EN (in), C1 GND1 (power), C2 GND2 (power), C3 TREN (in)

## MAX8969EWL42+T
designator U?
1A, Step-Up Converter for Handheld Applications, 4.25V output, 9-Pin WLP, -40°C to +85°C, Pb-Free, Tape and Reel; DatasheetVersion: Rev 0, Sep-2011; PackageVersion: revD, 2011; PackageReference: W91B1+7; PackageDescription: 9-Ball Wafer-Level Package 3x3 Bump, Full Array (WLP) 0.4 mm Pitch, Pb-Free; ComponentLink1Description: Manufacturer URL; ComponentLink1URL: http://www.maxim-ic.com; ComponentLink2Description: Datasheet; ComponentLink2URL: http://datasheets.maxim-ic.com/en/ds/MAX8969.pdf; ComponentLink3Description: Package Specification; ComponentLink3URL: http://pdfserv.maxim-ic.com/package_dwgs/21-0459.PDF
footprint W91B1+7 (BGA, 9-Leads, Body 1.26x1.26mm, Pitch 0.4mm)
pins: A1 OUT1 (power), A2 OUT2 (power), A3 IN (power), B1 LX1, B2 LX2, B3 EN (in), C1 GND1 (power), C2 GND2 (power), C3 TREN (in)

## MAX13256ATB+T
designator U?
36V H-Bridge Transformer Driver, 10-Pin TDFN-EP, -40°C to +125°C, Pb-Free, Tape and Reel; DatasheetVersion: Rev 1, Aug-2011; PackageVersion: revJ, 2009; PackageReference: T1033+1; PackageDescription: 10-Pin Plastic Very Very Thin Dual Flatpack No Leads, Exposed Pad, 3 x 3 x 0.8 mm Body, TDFN-EP, Pb-Free; Code_JEDEC: MO-229-WEED-3; ComponentLink1Description: Manufacturer URL; ComponentLink1URL: http://www.maxim-ic.com; ComponentLink2Description: Datasheet; ComponentLink2URL: http://datasheets.maxim-ic.com/en/ds/MAX13256.pdf; ComponentLink3Description: Package Specification; ComponentLink3URL: http://pdfserv.maxim-ic.com/package_dwgs/21-0137 (PDF)
footprint T1033+1_V (SON, 10-Leads, Body 3x3mm, Pitch 0.5mm, Thermal Pad 2.35x1.58mm, Maxim Recommended)
pins: 1 VDD (power), 2 VDD (power), 3 CLK (in), 4 ~{EN} (in), 5 ITH (in), 6 ~{FAULT} (oc), 7 GND (power), 8 ST2 (out), 9 GND (power), 10 ST1 (out), 11 EP (power)

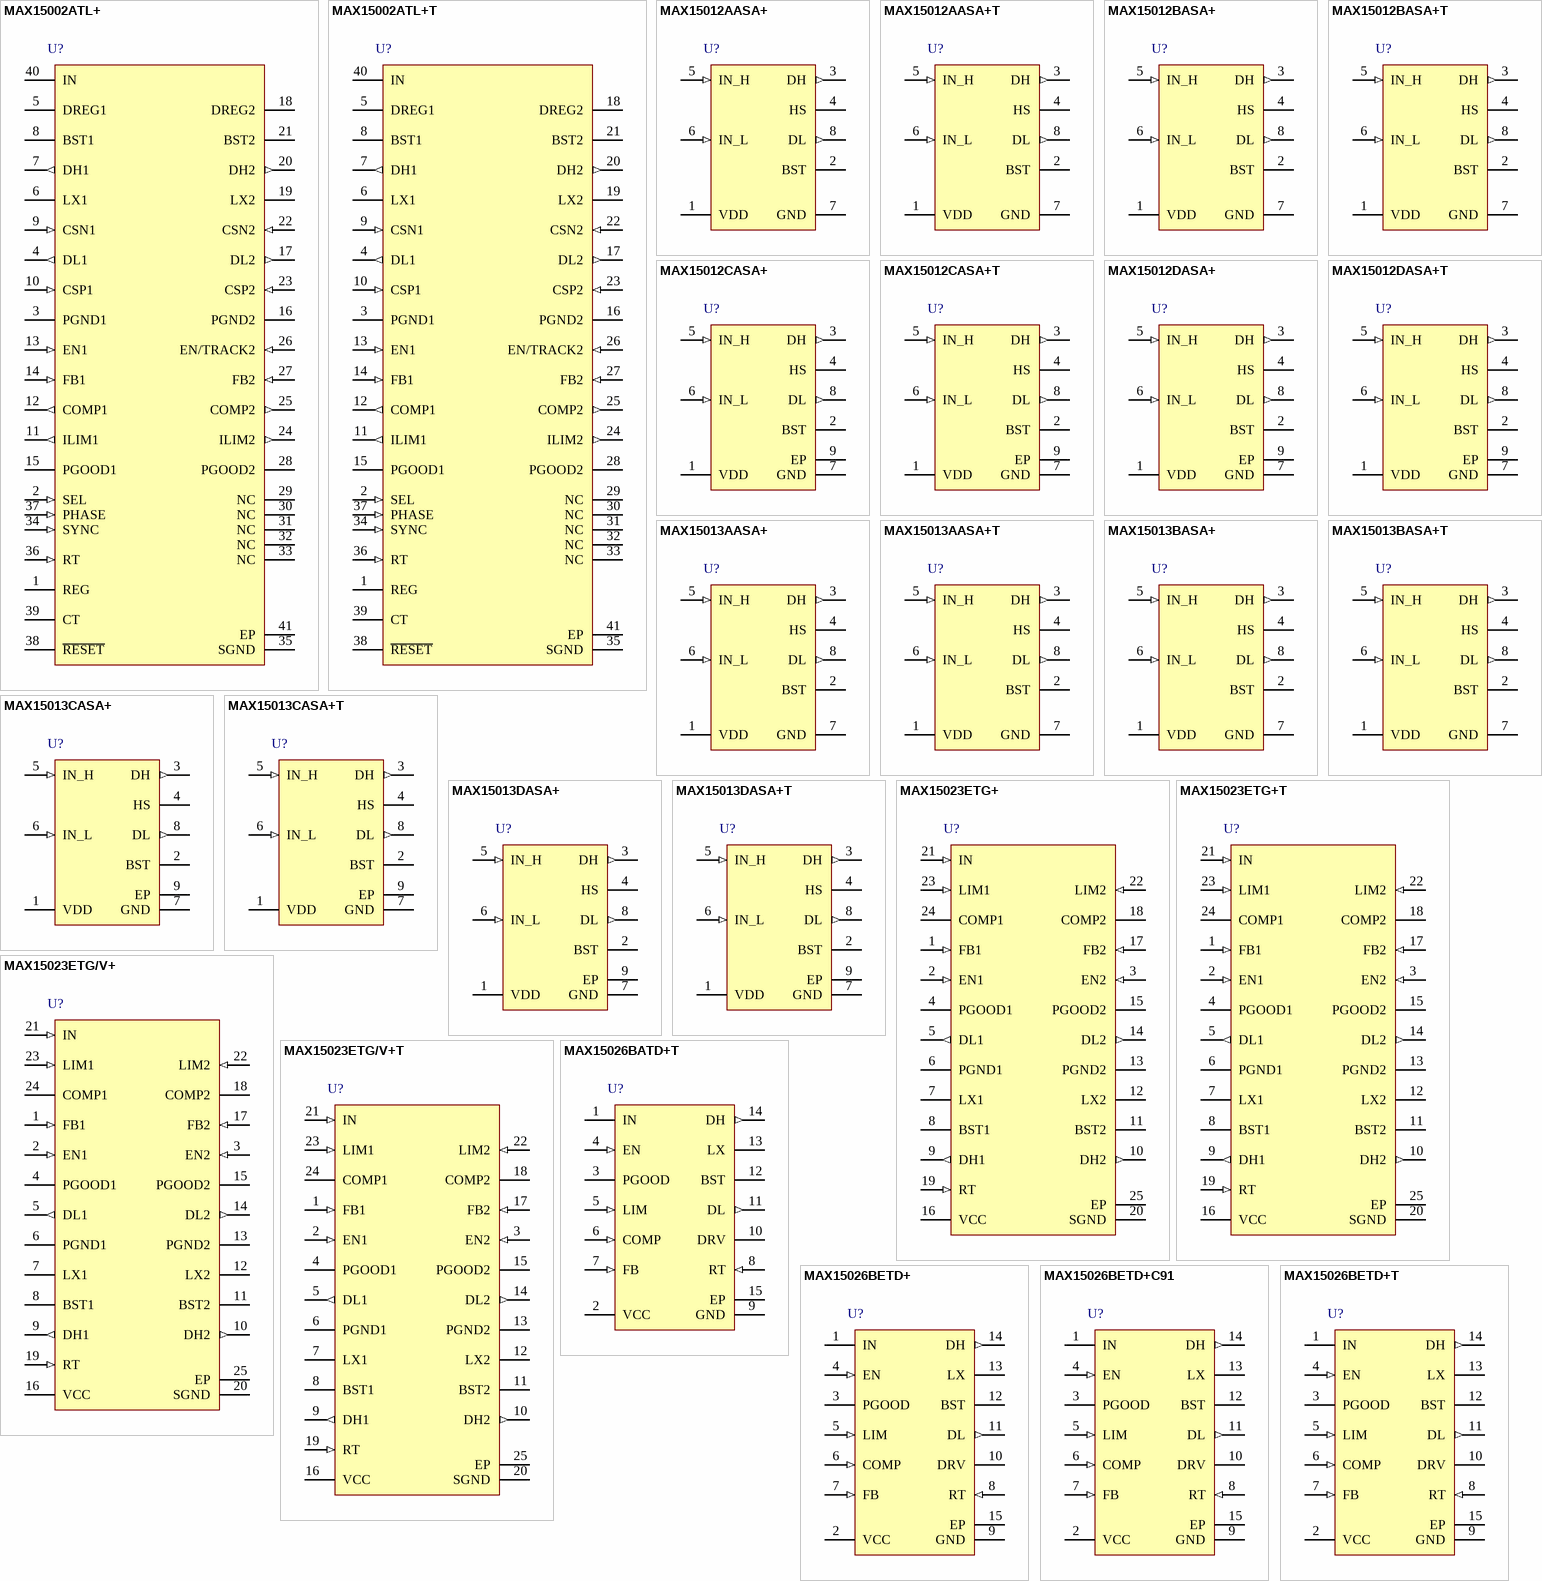
[diagram p17: symbols MAX15002ATL+ to MAX15026BETD+T]

## MAX15002ATL+
designator U?
Dual-Output Buck Controller with Tracking/Sequencing, 40-Pin TQFN, -40°C to +125°C, Pb-Free; DatasheetVersion: Rev 1, Jun-2008; PackageVersion: revK, 2010; PackageReference: T4066+3; PackageDescription: 40-Pin Thin Quad Flatpack, No Leads, 6 x 6 x 0.75 mm Body, 0.5 mm Pitch, TQFN, Pb-Free; Code_JEDEC: MO-220-WJJD-2; ComponentLink1Description: Manufacturer URL; ComponentLink1URL: http://www.maxim-ic.com; ComponentLink2Description: Datasheet; ComponentLink2URL: http://datasheets.maxim-ic.com/en/ds/MAX15002.pdf; ComponentLink3Description: Package Specification; ComponentLink3URL: http://pdfserv.maxim-ic.com/package_dwgs/21-0141.PDF
footprint T4066+3_N (QFN, 40-Leads, Body 6x6mm, Pitch 0.5mm, Thermal Pad 4.2x4.2mm, IPC Medium Density)
footprint T4066+3_L (QFN, 40-Leads, Body 6x6mm, Pitch 0.5mm, Thermal Pad 4.2x4.2mm, IPC High Density)
footprint T4066+3_M (QFN, 40-Leads, Body 6x6mm, Pitch 0.5mm, Thermal Pad 4.2x4.2mm, IPC Low Density)
pins: 1 REG (power), 2 SEL (in), 3 PGND1 (power), 4 DL1 (out), 5 DREG1 (power), 6 LX1, 7 DH1 (out), 8 BST1, 9 CSN1 (in), 10 CSP1 (in), 11 ILIM1 (out), 12 COMP1 (out), 13 EN1 (in), 14 FB1 (in), 15 PGOOD1 (oc), 16 PGND2 (power), 17 DL2 (out), 18 DREG2 (power), 19 LX2, 20 DH2 (out), 21 BST2, 22 CSN2 (in), 23 CSP2 (in), 24 ILIM2 (out), 25 COMP2 (out), 26 EN/TRACK2 (in), 27 FB2 (in), 28 PGOOD2 (oc), 29 NC, 30 NC, 31 NC, 32 NC, 33 NC, 34 SYNC (in), 35 SGND (power), 36 RT (in), 37 PHASE (in), 38 ~{RESET} (oc), 39 CT, 40 IN (power), 41 EP (power)

## MAX15002ATL+T
designator U?
Dual-Output Buck Controller with Tracking/Sequencing, 40-Pin TQFN, -40°C to +125°C, Pb-Free, Tape and Reel; DatasheetVersion: Rev 1, Jun-2008; PackageVersion: revK, 2010; PackageReference: T4066+3; PackageDescription: 40-Pin Thin Quad Flatpack, No Leads, 6 x 6 x 0.75 mm Body, 0.5 mm Pitch, TQFN, Pb-Free; Code_JEDEC: MO-220-WJJD-2; ComponentLink1Description: Manufacturer URL; ComponentLink1URL: http://www.maxim-ic.com; ComponentLink2Description: Datasheet; ComponentLink2URL: http://datasheets.maxim-ic.com/en/ds/MAX15002.pdf; ComponentLink3Description: Package Specification; ComponentLink3URL: http://pdfserv.maxim-ic.com/package_dwgs/21-0141.PDF
footprint T4066+3_N (QFN, 40-Leads, Body 6x6mm, Pitch 0.5mm, Thermal Pad 4.2x4.2mm, IPC Medium Density)
footprint T4066+3_L (QFN, 40-Leads, Body 6x6mm, Pitch 0.5mm, Thermal Pad 4.2x4.2mm, IPC High Density)
footprint T4066+3_M (QFN, 40-Leads, Body 6x6mm, Pitch 0.5mm, Thermal Pad 4.2x4.2mm, IPC Low Density)
pins: 1 REG (power), 2 SEL (in), 3 PGND1 (power), 4 DL1 (out), 5 DREG1 (power), 6 LX1, 7 DH1 (out), 8 BST1, 9 CSN1 (in), 10 CSP1 (in), 11 ILIM1 (out), 12 COMP1 (out), 13 EN1 (in), 14 FB1 (in), 15 PGOOD1 (oc), 16 PGND2 (power), 17 DL2 (out), 18 DREG2 (power), 19 LX2, 20 DH2 (out), 21 BST2, 22 CSN2 (in), 23 CSP2 (in), 24 ILIM2 (out), 25 COMP2 (out), 26 EN/TRACK2 (in), 27 FB2 (in), 28 PGOOD2 (oc), 29 NC, 30 NC, 31 NC, 32 NC, 33 NC, 34 SYNC (in), 35 SGND (power), 36 RT (in), 37 PHASE (in), 38 ~{RESET} (oc), 39 CT, 40 IN (power), 41 EP (power)

## MAX15012AASA+
designator U?
175V/2A, High-Speed, Half-Bridge MOSFET Driver, non-inverting low-side driver, 8-Pin SOIC, -40°C to +125°C, Pb-Free; DatasheetVersion: Rev 1, Dec-2007; PackageVersion: revC, 2010; PackageReference: S8+5; PackageDescription: 8-Pin Small-Outline IC, Narrow (0.15in), 1.27 mm Pitch, SOIC (N), Pb-Free; Code_JEDEC: MS-012-AA; Code_IPC: SOIC127P600-8; ComponentLink1Description: Manufacturer URL; ComponentLink1URL: http://www.maxim-ic.com; ComponentLink2Description: Datasheet; ComponentLink2URL: http://datasheets.maxim-ic.com/en/ds/MAX15012-MAX15013B.pdf; ComponentLink3Description: Package Specification; ComponentLink3URL: http://pdfserv.maxim-ic.com/package_dwgs/21-0041.PDF
footprint S8+5_N (SOIC, 8-Leads, Body 4.9x3.9mm, Pitch 1.27mm, IPC Medium Density)
footprint S8+5_L (SOIC, 8-Leads, Body 4.9x3.9mm, Pitch 1.27mm, IPC High Density)
footprint S8+5_M (SOIC, 8-Leads, Body 4.9x3.9mm, Pitch 1.27mm, IPC Low Density)
pins: 1 VDD (power), 2 BST, 3 DH (out), 4 HS, 5 IN_H (in), 6 IN_L (in), 7 GND (power), 8 DL (out)

## MAX15012AASA+T
designator U?
175V/2A, High-Speed, Half-Bridge MOSFET Driver, non-inverting low-side driver, 8-Pin SOIC, -40°C to +125°C, Pb-Free, Tape and Reel; DatasheetVersion: Rev 1, Dec-2007; PackageVersion: revC, 2010; PackageReference: S8+5; PackageDescription: 8-Pin Small-Outline IC, Narrow (0.15in), 1.27 mm Pitch, SOIC (N), Pb-Free; Code_JEDEC: MS-012-AA; Code_IPC: SOIC127P600-8; ComponentLink1Description: Manufacturer URL; ComponentLink1URL: http://www.maxim-ic.com; ComponentLink2Description: Datasheet; ComponentLink2URL: http://datasheets.maxim-ic.com/en/ds/MAX15012-MAX15013B.pdf; ComponentLink3Description: Package Specification; ComponentLink3URL: http://pdfserv.maxim-ic.com/package_dwgs/21-0041.PDF
footprint S8+5_N (SOIC, 8-Leads, Body 4.9x3.9mm, Pitch 1.27mm, IPC Medium Density)
footprint S8+5_L (SOIC, 8-Leads, Body 4.9x3.9mm, Pitch 1.27mm, IPC High Density)
footprint S8+5_M (SOIC, 8-Leads, Body 4.9x3.9mm, Pitch 1.27mm, IPC Low Density)
pins: 1 VDD (power), 2 BST, 3 DH (out), 4 HS, 5 IN_H (in), 6 IN_L (in), 7 GND (power), 8 DL (out)

## MAX15012BASA+
designator U?
175V/2A, High-Speed, Half-Bridge MOSFET Driver, inverting low-side driver, 8-Pin SOIC, -40°C to +125°C, Pb-Free; DatasheetVersion: Rev 1, Dec-2007; PackageVersion: revC, 2010; PackageReference: S8+5; PackageDescription: 8-Pin Small-Outline IC, Narrow (0.15in), 1.27 mm Pitch, SOIC (N), Pb-Free; Code_JEDEC: MS-012-AA; Code_IPC: SOIC127P600-8; ComponentLink1Description: Manufacturer URL; ComponentLink1URL: http://www.maxim-ic.com; ComponentLink2Description: Datasheet; ComponentLink2URL: http://datasheets.maxim-ic.com/en/ds/MAX15012-MAX15013B.pdf; ComponentLink3Description: Package Specification; ComponentLink3URL: http://pdfserv.maxim-ic.com/package_dwgs/21-0041.PDF
footprint S8+5_N (SOIC, 8-Leads, Body 4.9x3.9mm, Pitch 1.27mm, IPC Medium Density)
footprint S8+5_L (SOIC, 8-Leads, Body 4.9x3.9mm, Pitch 1.27mm, IPC High Density)
footprint S8+5_M (SOIC, 8-Leads, Body 4.9x3.9mm, Pitch 1.27mm, IPC Low Density)
pins: 1 VDD (power), 2 BST, 3 DH (out), 4 HS, 5 IN_H (in), 6 IN_L (in), 7 GND (power), 8 DL (out)

## MAX15012BASA+T
designator U?
175V/2A, High-Speed, Half-Bridge MOSFET Driver, inverting low-side driver, 8-Pin SOIC, -40°C to +125°C, Pb-Free, Tape and Reel; DatasheetVersion: Rev 1, Dec-2007; PackageVersion: revC, 2010; PackageReference: S8+5; PackageDescription: 8-Pin Small-Outline IC, Narrow (0.15in), 1.27 mm Pitch, SOIC (N), Pb-Free; Code_JEDEC: MS-012-AA; Code_IPC: SOIC127P600-8; ComponentLink1Description: Manufacturer URL; ComponentLink1URL: http://www.maxim-ic.com; ComponentLink2Description: Datasheet; ComponentLink2URL: http://datasheets.maxim-ic.com/en/ds/MAX15012-MAX15013B.pdf; ComponentLink3Description: Package Specification; ComponentLink3URL: http://pdfserv.maxim-ic.com/package_dwgs/21-0111.PDF
footprint S8+5_N (SOIC, 8-Leads, Body 4.9x3.9mm, Pitch 1.27mm, IPC Medium Density)
footprint S8+5_L (SOIC, 8-Leads, Body 4.9x3.9mm, Pitch 1.27mm, IPC High Density)
footprint S8+5_M (SOIC, 8-Leads, Body 4.9x3.9mm, Pitch 1.27mm, IPC Low Density)
pins: 1 VDD (power), 2 BST, 3 DH (out), 4 HS, 5 IN_H (in), 6 IN_L (in), 7 GND (power), 8 DL (out)

## MAX15012CASA+
designator U?
175V/2A, High-Speed, Half-Bridge MOSFET Driver, non-inverting low-side driver, 8-Pin SOIC-EP, -40°C to +125°C, Pb-Free; DatasheetVersion: Rev 1, Dec-2007; PackageVersion: revE, 2009; PackageReference: S8E+14; PackageDescription: 8-Pin Small-Outline IC, Narrow (0.15in), Exposed Pad, 1.27 mm Pitch, SOIC(N)-EP, Pb-Free; Code_JEDEC: MS-012*; ComponentLink1Description: Manufacturer URL; ComponentLink1URL: http://www.maxim-ic.com; ComponentLink2Description: Datasheet; ComponentLink2URL: http://datasheets.maxim-ic.com/en/ds/MAX15012-MAX15013B.pdf; ComponentLink3Description: Package Specification; ComponentLink3URL: http://pdfserv.maxim-ic.com/package_dwgs/21-0111.PDF
footprint S8E+14_N (SOIC, 8-Leads, Body 4.9x3.9mm, Pitch 1.27mm, Thermal Pad, IPC Medium Density)
footprint S8E+14_L (SOIC, 8-Leads, Body 4.9x3.9mm, Pitch 1.27mm, Thermal Pad, IPC High Density)
footprint S8E+14_M (SOIC, 8-Leads, Body 4.9x3.9mm, Pitch 1.27mm, Thermal Pad, IPC Low Density)
pins: 1 VDD (power), 2 BST, 3 DH (out), 4 HS, 5 IN_H (in), 6 IN_L (in), 7 GND (power), 8 DL (out), 9 EP (power)

## MAX15012CASA+T
designator U?
175V/2A, High-Speed, Half-Bridge MOSFET Driver, non-inverting low-side driver, 8-Pin SOIC-EP, -40°C to +125°C, Pb-Free, Tape and Reel; DatasheetVersion: Rev 1, Dec-2007; PackageVersion: revE, 2009; PackageReference: S8E+14; PackageDescription: 8-Pin Small-Outline IC, Narrow (0.15in), Exposed Pad, 1.27 mm Pitch, SOIC(N)-EP, Pb-Free; Code_JEDEC: MS-012*; ComponentLink1Description: Manufacturer URL; ComponentLink1URL: http://www.maxim-ic.com; ComponentLink2Description: Datasheet; ComponentLink2URL: http://datasheets.maxim-ic.com/en/ds/MAX15012-MAX15013B.pdf; ComponentLink3Description: Package Specification; ComponentLink3URL: http://pdfserv.maxim-ic.com/package_dwgs/21-0111.PDF
footprint S8E+14_N (SOIC, 8-Leads, Body 4.9x3.9mm, Pitch 1.27mm, Thermal Pad, IPC Medium Density)
footprint S8E+14_L (SOIC, 8-Leads, Body 4.9x3.9mm, Pitch 1.27mm, Thermal Pad, IPC High Density)
footprint S8E+14_M (SOIC, 8-Leads, Body 4.9x3.9mm, Pitch 1.27mm, Thermal Pad, IPC Low Density)
pins: 1 VDD (power), 2 BST, 3 DH (out), 4 HS, 5 IN_H (in), 6 IN_L (in), 7 GND (power), 8 DL (out), 9 EP (power)

## MAX15012DASA+
designator U?
175V/2A, High-Speed, Half-Bridge MOSFET Driver, inverting low-side driver, 8-Pin SOIC-EP, -40°C to +125°C, Pb-Free; DatasheetVersion: Rev 1, Dec-2007; PackageVersion: revE, 2009; PackageReference: S8E+14; PackageDescription: 8-Pin Small-Outline IC, Narrow (0.15in), Exposed Pad, 1.27 mm Pitch, SOIC(N)-EP, Pb-Free; Code_JEDEC: MS-012*; ComponentLink1Description: Manufacturer URL; ComponentLink1URL: http://www.maxim-ic.com; ComponentLink2Description: Datasheet; ComponentLink2URL: http://datasheets.maxim-ic.com/en/ds/MAX15012-MAX15013B.pdf; ComponentLink3Description: Package Specification; ComponentLink3URL: http://pdfserv.maxim-ic.com/package_dwgs/21-0111.PDF
footprint S8E+14_N (SOIC, 8-Leads, Body 4.9x3.9mm, Pitch 1.27mm, Thermal Pad, IPC Medium Density)
footprint S8E+14_L (SOIC, 8-Leads, Body 4.9x3.9mm, Pitch 1.27mm, Thermal Pad, IPC High Density)
footprint S8E+14_M (SOIC, 8-Leads, Body 4.9x3.9mm, Pitch 1.27mm, Thermal Pad, IPC Low Density)
pins: 1 VDD (power), 2 BST, 3 DH (out), 4 HS, 5 IN_H (in), 6 IN_L (in), 7 GND (power), 8 DL (out), 9 EP (power)

## MAX15012DASA+T
designator U?
175V/2A, High-Speed, Half-Bridge MOSFET Driver, inverting low-side driver, 8-Pin SOIC-EP, -40°C to +125°C, Pb-Free, Tape and Reel; DatasheetVersion: Rev 1, Dec-2007; PackageVersion: revE, 2009; PackageReference: S8E+14; PackageDescription: 8-Pin Small-Outline IC, Narrow (0.15in), Exposed Pad, 1.27 mm Pitch, SOIC(N)-EP, Pb-Free; Code_JEDEC: MS-012*; ComponentLink1Description: Manufacturer URL; ComponentLink1URL: http://www.maxim-ic.com; ComponentLink2Description: Datasheet; ComponentLink2URL: http://datasheets.maxim-ic.com/en/ds/MAX15012-MAX15013B.pdf; ComponentLink3Description: Package Specification; ComponentLink3URL: http://pdfserv.maxim-ic.com/package_dwgs/21-0111.PDF
footprint S8E+14_N (SOIC, 8-Leads, Body 4.9x3.9mm, Pitch 1.27mm, Thermal Pad, IPC Medium Density)
footprint S8E+14_L (SOIC, 8-Leads, Body 4.9x3.9mm, Pitch 1.27mm, Thermal Pad, IPC High Density)
footprint S8E+14_M (SOIC, 8-Leads, Body 4.9x3.9mm, Pitch 1.27mm, Thermal Pad, IPC Low Density)
pins: 1 VDD (power), 2 BST, 3 DH (out), 4 HS, 5 IN_H (in), 6 IN_L (in), 7 GND (power), 8 DL (out), 9 EP (power)

## MAX15013AASA+
designator U?
175V/2A, High-Speed, Half-Bridge MOSFET Driver, non-inverting low-side driver, 8-Pin SOIC, -40°C to +125°C, Pb-Free; DatasheetVersion: Rev 1, Dec-2007; PackageVersion: revC, 2010; PackageReference: S8+5; PackageDescription: 8-Pin Small-Outline IC, Narrow (0.15in), 1.27 mm Pitch, SOIC (N), Pb-Free; Code_JEDEC: MS-012-AA; Code_IPC: SOIC127P600-8; ComponentLink1Description: Manufacturer URL; ComponentLink1URL: http://www.maxim-ic.com; ComponentLink2Description: Datasheet; ComponentLink2URL: http://datasheets.maxim-ic.com/en/ds/MAX15012-MAX15013B.pdf; ComponentLink3Description: Package Specification; ComponentLink3URL: http://pdfserv.maxim-ic.com/package_dwgs/21-0041.PDF
footprint S8+5_N (SOIC, 8-Leads, Body 4.9x3.9mm, Pitch 1.27mm, IPC Medium Density)
footprint S8+5_L (SOIC, 8-Leads, Body 4.9x3.9mm, Pitch 1.27mm, IPC High Density)
footprint S8+5_M (SOIC, 8-Leads, Body 4.9x3.9mm, Pitch 1.27mm, IPC Low Density)
pins: 1 VDD (power), 2 BST, 3 DH (out), 4 HS, 5 IN_H (in), 6 IN_L (in), 7 GND (power), 8 DL (out)

## MAX15013AASA+T
designator U?
175V/2A, High-Speed, Half-Bridge MOSFET Driver, non-inverting low-side driver, 8-Pin SOIC, -40°C to +125°C, Pb-Free, Tape and Reel; DatasheetVersion: Rev 1, Dec-2007; PackageVersion: revC, 2010; PackageReference: S8+5; PackageDescription: 8-Pin Small-Outline IC, Narrow (0.15in), 1.27 mm Pitch, SOIC (N), Pb-Free; Code_JEDEC: MS-012-AA; Code_IPC: SOIC127P600-8; ComponentLink1Description: Manufacturer URL; ComponentLink1URL: http://www.maxim-ic.com; ComponentLink2Description: Datasheet; ComponentLink2URL: http://datasheets.maxim-ic.com/en/ds/MAX15012-MAX15013B.pdf; ComponentLink3Description: Package Specification; ComponentLink3URL: http://pdfserv.maxim-ic.com/package_dwgs/21-0041.PDF
footprint S8+5_N (SOIC, 8-Leads, Body 4.9x3.9mm, Pitch 1.27mm, IPC Medium Density)
footprint S8+5_L (SOIC, 8-Leads, Body 4.9x3.9mm, Pitch 1.27mm, IPC High Density)
footprint S8+5_M (SOIC, 8-Leads, Body 4.9x3.9mm, Pitch 1.27mm, IPC Low Density)
pins: 1 VDD (power), 2 BST, 3 DH (out), 4 HS, 5 IN_H (in), 6 IN_L (in), 7 GND (power), 8 DL (out)

## MAX15013BASA+
designator U?
175V/2A, High-Speed, Half-Bridge MOSFET Driver, inverting low-side driver, 8-Pin SOIC, -40°C to +125°C, Pb-Free; DatasheetVersion: Rev 1, Dec-2007; PackageVersion: revC, 2010; PackageReference: S8+5; PackageDescription: 8-Pin Small-Outline IC, Narrow (0.15in), 1.27 mm Pitch, SOIC (N), Pb-Free; Code_JEDEC: MS-012-AA; Code_IPC: SOIC127P600-8; ComponentLink1Description: Manufacturer URL; ComponentLink1URL: http://www.maxim-ic.com; ComponentLink2Description: Datasheet; ComponentLink2URL: http://datasheets.maxim-ic.com/en/ds/MAX15012-MAX15013B.pdf; ComponentLink3Description: Package Specification; ComponentLink3URL: http://pdfserv.maxim-ic.com/package_dwgs/21-0041.PDF
footprint S8+5_N (SOIC, 8-Leads, Body 4.9x3.9mm, Pitch 1.27mm, IPC Medium Density)
footprint S8+5_L (SOIC, 8-Leads, Body 4.9x3.9mm, Pitch 1.27mm, IPC High Density)
footprint S8+5_M (SOIC, 8-Leads, Body 4.9x3.9mm, Pitch 1.27mm, IPC Low Density)
pins: 1 VDD (power), 2 BST, 3 DH (out), 4 HS, 5 IN_H (in), 6 IN_L (in), 7 GND (power), 8 DL (out)

## MAX15013BASA+T
designator U?
175V/2A, High-Speed, Half-Bridge MOSFET Driver, inverting low-side driver, 8-Pin SOIC, -40°C to +125°C, Pb-Free, Tape and Reel; DatasheetVersion: Rev 1, Dec-2007; PackageVersion: revC, 2010; PackageReference: S8+5; PackageDescription: 8-Pin Small-Outline IC, Narrow (0.15in), 1.27 mm Pitch, SOIC (N), Pb-Free; Code_JEDEC: MS-012-AA; Code_IPC: SOIC127P600-8; ComponentLink1Description: Manufacturer URL; ComponentLink1URL: http://www.maxim-ic.com; ComponentLink2Description: Datasheet; ComponentLink2URL: http://datasheets.maxim-ic.com/en/ds/MAX15012-MAX15013B.pdf; ComponentLink3Description: Package Specification; ComponentLink3URL: http://pdfserv.maxim-ic.com/package_dwgs/21-0041.PDF
footprint S8+5_N (SOIC, 8-Leads, Body 4.9x3.9mm, Pitch 1.27mm, IPC Medium Density)
footprint S8+5_L (SOIC, 8-Leads, Body 4.9x3.9mm, Pitch 1.27mm, IPC High Density)
footprint S8+5_M (SOIC, 8-Leads, Body 4.9x3.9mm, Pitch 1.27mm, IPC Low Density)
pins: 1 VDD (power), 2 BST, 3 DH (out), 4 HS, 5 IN_H (in), 6 IN_L (in), 7 GND (power), 8 DL (out)

## MAX15013CASA+
designator U?
175V/2A, High-Speed, Half-Bridge MOSFET Driver, non-inverting low-side driver, 8-Pin SOIC-EP, -40°C to +125°C, Pb-Free; DatasheetVersion: Rev 1, Dec-2007; PackageVersion: revE, 2009; PackageReference: S8E+14; PackageDescription: 8-Pin Small-Outline IC, Narrow (0.15in), Exposed Pad, 1.27 mm Pitch, SOIC(N)-EP, Pb-Free; Code_JEDEC: MS-012*; ComponentLink1Description: Manufacturer URL; ComponentLink1URL: http://www.maxim-ic.com; ComponentLink2Description: Datasheet; ComponentLink2URL: http://datasheets.maxim-ic.com/en/ds/MAX15012-MAX15013B.pdf; ComponentLink3Description: Package Specification; ComponentLink3URL: http://pdfserv.maxim-ic.com/package_dwgs/21-0111.PDF
footprint S8E+14_N (SOIC, 8-Leads, Body 4.9x3.9mm, Pitch 1.27mm, Thermal Pad, IPC Medium Density)
footprint S8E+14_L (SOIC, 8-Leads, Body 4.9x3.9mm, Pitch 1.27mm, Thermal Pad, IPC High Density)
footprint S8E+14_M (SOIC, 8-Leads, Body 4.9x3.9mm, Pitch 1.27mm, Thermal Pad, IPC Low Density)
pins: 1 VDD (power), 2 BST, 3 DH (out), 4 HS, 5 IN_H (in), 6 IN_L (in), 7 GND (power), 8 DL (out), 9 EP (power)

## MAX15013CASA+T
designator U?
175V/2A, High-Speed, Half-Bridge MOSFET Driver, non-inverting low-side driver, 8-Pin SOIC-EP, -40°C to +125°C, Pb-Free, Tape and Reel; DatasheetVersion: Rev 1, Dec-2007; PackageVersion: revE, 2009; PackageReference: S8E+14; PackageDescription: 8-Pin Small-Outline IC, Narrow (0.15in), Exposed Pad, 1.27 mm Pitch, SOIC(N)-EP, Pb-Free; Code_JEDEC: MS-012*; ComponentLink1Description: Manufacturer URL; ComponentLink1URL: http://www.maxim-ic.com; ComponentLink2Description: Datasheet; ComponentLink2URL: http://datasheets.maxim-ic.com/en/ds/MAX15012-MAX15013B.pdf; ComponentLink3Description: Package Specification; ComponentLink3URL: http://pdfserv.maxim-ic.com/package_dwgs/21-0111.PDF
footprint S8E+14_N (SOIC, 8-Leads, Body 4.9x3.9mm, Pitch 1.27mm, Thermal Pad, IPC Medium Density)
footprint S8E+14_L (SOIC, 8-Leads, Body 4.9x3.9mm, Pitch 1.27mm, Thermal Pad, IPC High Density)
footprint S8E+14_M (SOIC, 8-Leads, Body 4.9x3.9mm, Pitch 1.27mm, Thermal Pad, IPC Low Density)
pins: 1 VDD (power), 2 BST, 3 DH (out), 4 HS, 5 IN_H (in), 6 IN_L (in), 7 GND (power), 8 DL (out), 9 EP (power)

## MAX15013DASA+
designator U?
175V/2A, High-Speed, Half-Bridge MOSFET Driver, inverting low-side driver, 8-Pin SOIC-EP, -40°C to +125°C, Pb-Free; DatasheetVersion: Rev 1, Dec-2007; PackageVersion: revE, 2009; PackageReference: S8E+14; PackageDescription: 8-Pin Small-Outline IC, Narrow (0.15in), Exposed Pad, 1.27 mm Pitch, SOIC(N)-EP, Pb-Free; Code_JEDEC: MS-012*; ComponentLink1Description: Manufacturer URL; ComponentLink1URL: http://www.maxim-ic.com; ComponentLink2Description: Datasheet; ComponentLink2URL: http://datasheets.maxim-ic.com/en/ds/MAX15012-MAX15013B.pdf; ComponentLink3Description: Package Specification; ComponentLink3URL: http://pdfserv.maxim-ic.com/package_dwgs/21-0111.PDF
footprint S8E+14_N (SOIC, 8-Leads, Body 4.9x3.9mm, Pitch 1.27mm, Thermal Pad, IPC Medium Density)
footprint S8E+14_L (SOIC, 8-Leads, Body 4.9x3.9mm, Pitch 1.27mm, Thermal Pad, IPC High Density)
footprint S8E+14_M (SOIC, 8-Leads, Body 4.9x3.9mm, Pitch 1.27mm, Thermal Pad, IPC Low Density)
pins: 1 VDD (power), 2 BST, 3 DH (out), 4 HS, 5 IN_H (in), 6 IN_L (in), 7 GND (power), 8 DL (out), 9 EP (power)

## MAX15013DASA+T
designator U?
175V/2A, High-Speed, Half-Bridge MOSFET Driver, inverting low-side driver, 8-Pin SOIC-EP, -40°C to +125°C, Pb-Free, Tape and Reel; DatasheetVersion: Rev 1, Dec-2007; PackageVersion: revE, 2009; PackageReference: S8E+14; PackageDescription: 8-Pin Small-Outline IC, Narrow (0.15in), Exposed Pad, 1.27 mm Pitch, SOIC(N)-EP, Pb-Free; Code_JEDEC: MS-012*; ComponentLink1Description: Manufacturer URL; ComponentLink1URL: http://www.maxim-ic.com; ComponentLink2Description: Datasheet; ComponentLink2URL: http://datasheets.maxim-ic.com/en/ds/MAX15012-MAX15013B.pdf; ComponentLink3Description: Package Specification; ComponentLink3URL: http://pdfserv.maxim-ic.com/package_dwgs/21-0111.PDF
footprint S8E+14_N (SOIC, 8-Leads, Body 4.9x3.9mm, Pitch 1.27mm, Thermal Pad, IPC Medium Density)
footprint S8E+14_L (SOIC, 8-Leads, Body 4.9x3.9mm, Pitch 1.27mm, Thermal Pad, IPC High Density)
footprint S8E+14_M (SOIC, 8-Leads, Body 4.9x3.9mm, Pitch 1.27mm, Thermal Pad, IPC Low Density)
pins: 1 VDD (power), 2 BST, 3 DH (out), 4 HS, 5 IN_H (in), 6 IN_L (in), 7 GND (power), 8 DL (out), 9 EP (power)

## MAX15023ETG+
designator U?
Wide 4.5V to 28V Input, Dual-Output Synchronous Buck Controller, 24-Pin TQFN, -40°C to +85°C, Pb-Free; DatasheetVersion: Rev 2, Mar-2011; PackageVersion: revK, 2011; PackageReference: T2444+4; PackageDescription: 24-Pin Thin Quad Flatpack, No Leads, 4 x 4 x 0.75 mm Body, 0.5 mm Pitch, TQFN, Pb-Free; ComponentLink1Description: Manufacturer URL; ComponentLink1URL: http://www.maxim-ic.com; ComponentLink2Description: Datasheet; ComponentLink2URL: http://datasheets.maxim-ic.com/en/ds/MAX15023.pdf; ComponentLink3Description: Package Specification; ComponentLink3URL: http://pdfserv.maxim-ic.com/package_dwgs/21-0139.PDF
footprint T2444+4_N (QFN, 24-Leads, Body 4x4mm, Pitch 0.5mm, Thermal Pad 2.7x2.7mm, IPC Medium Density)
footprint T2444+4_L (QFN, 24-Leads, Body 4x4mm, Pitch 0.5mm, Thermal Pad 2.7x2.7mm, IPC High Density)
footprint T2444+4_M (QFN, 24-Leads, Body 4x4mm, Pitch 0.5mm, Thermal Pad 2.7x2.7mm, IPC Low Density)
pins: 1 FB1 (in), 2 EN1 (in), 3 EN2 (in), 4 PGOOD1 (oc), 5 DL1 (out), 6 PGND1 (power), 7 LX1, 8 BST1, 9 DH1 (out), 10 DH2 (out), 11 BST2, 12 LX2, 13 PGND2 (power), 14 DL2 (out), 15 PGOOD2 (oc), 16 VCC (power), 17 FB2 (in), 18 COMP2, 19 RT (in), 20 SGND (power), 21 IN (in), 22 LIM2 (in), 23 LIM1 (in), 24 COMP1, 25 EP (power)

## MAX15023ETG+T
designator U?
Wide 4.5V to 28V Input, Dual-Output Synchronous Buck Controller, 24-Pin TQFN, -40°C to +85°C, Pb-Free, Tape and Reel; DatasheetVersion: Rev 2, Mar-2011; PackageVersion: revK, 2011; PackageReference: T2444+4; PackageDescription: 24-Pin Thin Quad Flatpack, No Leads, 4 x 4 x 0.75 mm Body, 0.5 mm Pitch, TQFN, Pb-Free; ComponentLink1Description: Manufacturer URL; ComponentLink1URL: http://www.maxim-ic.com; ComponentLink2Description: Datasheet; ComponentLink2URL: http://datasheets.maxim-ic.com/en/ds/MAX15023.pdf; ComponentLink3Description: Package Specification; ComponentLink3URL: http://pdfserv.maxim-ic.com/package_dwgs/21-0139.PDF
footprint T2444+4_N (QFN, 24-Leads, Body 4x4mm, Pitch 0.5mm, Thermal Pad 2.7x2.7mm, IPC Medium Density)
footprint T2444+4_L (QFN, 24-Leads, Body 4x4mm, Pitch 0.5mm, Thermal Pad 2.7x2.7mm, IPC High Density)
footprint T2444+4_M (QFN, 24-Leads, Body 4x4mm, Pitch 0.5mm, Thermal Pad 2.7x2.7mm, IPC Low Density)
pins: 1 FB1 (in), 2 EN1 (in), 3 EN2 (in), 4 PGOOD1 (oc), 5 DL1 (out), 6 PGND1 (power), 7 LX1, 8 BST1, 9 DH1 (out), 10 DH2 (out), 11 BST2, 12 LX2, 13 PGND2 (power), 14 DL2 (out), 15 PGOOD2 (oc), 16 VCC (power), 17 FB2 (in), 18 COMP2, 19 RT (in), 20 SGND (power), 21 IN (in), 22 LIM2 (in), 23 LIM1 (in), 24 COMP1, 25 EP (power)